# EAGLE library part MMA8652FC (library freescale)
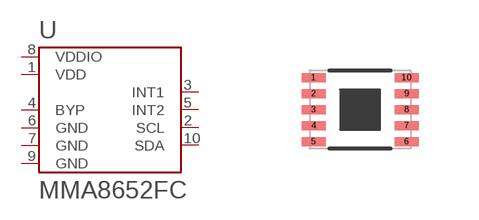
[diagram p0: symbol with the pads of MMA8652FC; footprint MMA8652FC]

Designator prefix U

## MMA8652FC  [MMA8652FC]
1  VDD
2  SCL
3  INT1
4  BYP
5  INT2
6  GND
7  GND
8  VDDIO
9  GND
10  SDA

## Footprint MMA8652FC (pad centres in mm)
smd 0.6 x 0.225: 1 -1.163,0.8; 2 -1.163,0.4; 3 -1.163,0; 4 -1.163,-0.4; 5 -1.163,-0.8; 6 1.163,-0.8; 7 1.163,-0.4; 8 1.163,0; 9 1.163,0.4; 10 1.163,0.8